# Altium footprint library CON_JST_ (1).PcbLib: 6 footprints
Each footprint in its own frame and in the unit in brackets; x right, y up, seen from the top. Pads: shape width x height; smd on the part's side, far side on the other; paste and mask are expansions set on the pad; w line width, h text height; cw(c..) or ccw(c..) is an arc to the next point about the centre after c.
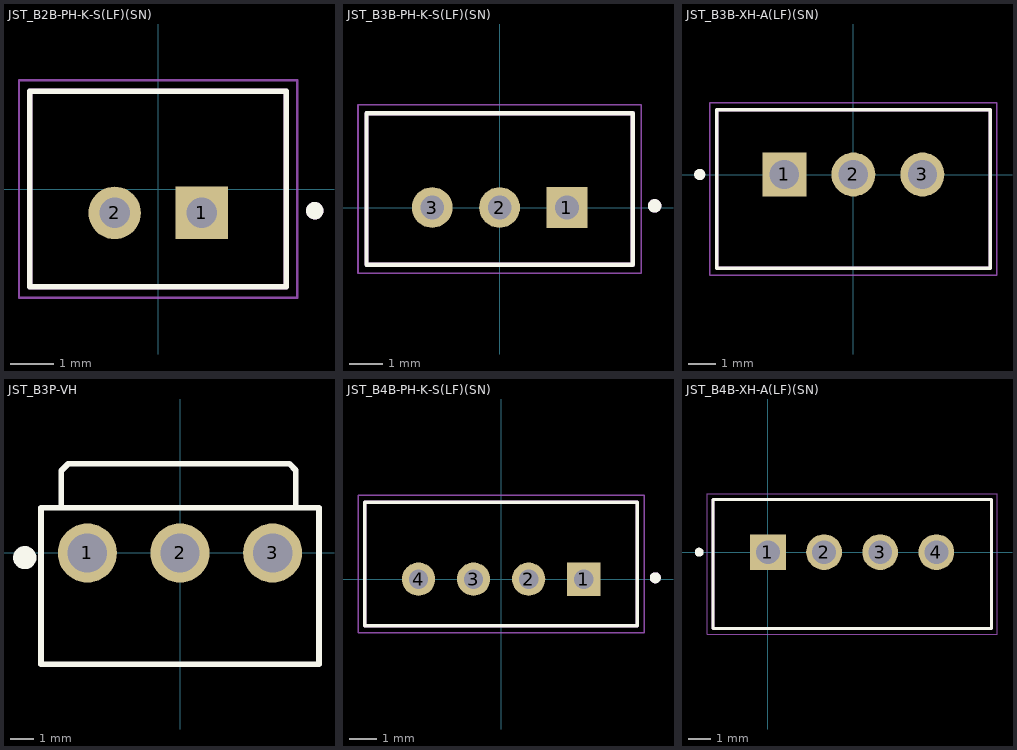
[diagram p0: the footprints below, top view; thin cyan lines are the x and y axes]

## JST_B2B-PH-K-S(LF)(SN) [mm]
pads (2):
  rect 1.208x1.208 hole 0.7: 1(1,-0.55)
  round 1.208 hole 0.7: 2(-1,-0.55)
Top Overlay:
  circle w0.2: c3.6,-0.5 r0.1
  lines w0.127: -2.95,-2.25 2.95,-2.25 2.95,2.25 -2.95,2.25 -2.95,-2.25
Mechanical 4:
  circle w0.2: c3.6,-0.5 r0.1
  circle w0.2: c3.6,-0.5 r0.1
  lines w0.127: -2.95,-2.25 -2.95,2.25 ; -2.95,-2.25 2.95,-2.25 ; -2.95,-2.25 -2.95,2.25 ; -2.95,-2.25 2.95,-2.25 ; -2.95,2.25 2.95,2.25 ; -2.95,2.25 2.95,2.25 ; 2.95,-2.25 2.95,2.25 ; 2.95,-2.25 2.95,2.25
Mechanical 16:
  lines w0.05: -3.2,-2.5 -3.2,2.5 3.2,2.5 3.2,-2.5 -3.2,-2.5
3D body: height 6, standoff 1.5, extent -2.9,2.1 2.9,2.2
3D body: height 6, standoff 1.5, extent 2.8,-2.2 2.9,2.2
3D body: height 6, standoff 1.5, extent 1,-2.2 2.9,-2.1
3D body: height 6, standoff 1.5, extent -2.9,-2.2 -1,-2.1
3D body: height 6, standoff 1.5, extent -2.9,-2.2 -2.8,2.2
3D body: height 1.5, standoff 0, extent -2.9,-2.2 2.9,2.2
3D body: height 5, standoff -3, extent -1.298,-0.849 -0.7,-0.251
3D body: height 5, standoff -3, extent 0.702,-0.849 1.3,-0.25

## JST_B3B-PH-K-S(LF)(SN) [mm]
pads (3):
  rect 1.208x1.208 hole 0.7: 1(2,0)
  round 1.208 hole 0.7: 2(0,0) 3(-2,0)
Top Overlay:
  circle w0.2: c4.6,0.05 r0.1
  lines w0.127: -3.95,-1.7 3.95,-1.7 3.95,2.8 -3.95,2.8 -3.95,-1.7
Mechanical 4:
  circle w0.2: c4.6,0.05 r0.1
  circle w0.2: c4.6,0.05 r0.1
  lines w0.127: -3.95,-1.7 -3.95,2.8 ; -3.95,-1.7 3.95,-1.7 ; -3.95,-1.7 -3.95,2.8 ; -3.95,-1.7 3.95,-1.7 ; -3.95,2.8 3.95,2.8 ; -3.95,2.8 3.95,2.8 ; 3.95,-1.7 3.95,2.8 ; 3.95,-1.7 3.95,2.8
Mechanical 16:
  lines w0.05: -4.2,-1.95 -4.2,3.05 4.2,3.05 4.2,-1.95 -4.2,-1.95
3D body: height 5, standoff -3, extent 1.702,-0.299 2.3,0.3
3D body: height 5, standoff -3, extent -0.297,-0.299 0.3,0.3
3D body: height 5, standoff -3, extent -2.298,-0.299 -1.7,0.3
3D body: height 1.5, standoff 0, extent -3.9,-1.7 3.9,2.8
3D body: height 6, standoff 1.5, extent 3.7,-1.7 3.9,2.8
3D body: height 6, standoff 1.5, extent -3.9,2.6 3.9,2.8
3D body: height 6, standoff 1.5, extent 1,-1.7 3.9,-1.5
3D body: height 6, standoff 1.5, extent -3.9,-1.7 -1,-1.5
3D body: height 6, standoff 1.5, extent -3.9,-1.7 -3.7,2.8

## JST_B3B-XH-A(LF)(SN) [mm]
pads (3):
  rect 1.59x1.59 hole 1.06: 1(-2.5,0.001)
  round 1.59 hole 1.06: 2(0,0.001) 3(2.5,0.001)
Top Overlay:
  circle w0.2: c-5.56,0.001 r0.1
  lines w0.127: -4.95,-3.399 -4.95,2.351 4.95,2.351 4.95,-3.399 -4.95,-3.399
Mechanical 4:
  lines w0.127: -4.95,-3.399 -4.95,2.351 ; -4.95,-3.399 4.95,-3.399 ; -4.95,-3.399 -4.95,2.351 ; -4.95,-3.399 4.95,-3.399 ; -4.95,2.351 4.95,2.351 ; -4.95,2.351 4.95,2.351 ; 4.95,-3.399 4.95,2.351 ; 4.95,-3.399 4.95,2.351
Mechanical 16:
  lines w0.05: -5.2,-3.649 -5.2,2.601 5.2,2.601 5.2,-3.649 -5.2,-3.649
3D body: height 6, standoff 1.5, extent -1.5,2 1.5,2.3
3D body: height 5, standoff -3, extent -2.996,-0.498 -2,0.5
3D body: height 5, standoff -3, extent -0.496,-0.499 0.5,0.499
3D body: height 5, standoff -3, extent 2.004,-0.499 3,0.499
3D body: height 1.5, standoff 0, extent -4.9,-3.4 4.9,2.301
3D body: height 6, standoff 1.5, extent -4.9,2 -2.7,2.301
3D body: height 6, standoff 1.5, extent -4.9,-3.4 4.9,-2.999
3D body: height 6, standoff 1.5, extent -4.9,-3.399 -4.5,2.301
3D body: height 6, standoff 1.5, extent 4.7,-3.4 4.9,2.3
3D body: height 6, standoff 1.5, extent 2.7,2 4.9,2.301

## JST_B3P-VH [mm]
pads (3):
  round 2.55 hole 1.7: 1(-4,0) 2(0,0) 3(4,0)
Top Overlay:
  circle w0.5: c-6.7,-0.2 r0.25
  lines w0.25: -5.125,2.025 -5.125,3.55 -4.825,3.85 4.725,3.85 5,3.575 5,1.975 5.025,1.95 ; -6,-4.8 -6,1.95 6,1.95 6,-4.8 -6,-4.8
3D body "User Library-B3P-VH.STEP": height 10.9, standoff -3.7, extent -5.895,-4.675 5.925,3.825

## JST_B4B-PH-K-S(LF)(SN) [mm]
pads (4):
  rect 1.208x1.208 hole 0.7: 1(3,0)
  round 1.208 hole 0.7: 2(1,0) 3(-1,0) 4(-3,0)
Top Overlay:
  circle w0.2: c5.6,0.05 r0.1
  lines w0.127: -4.95,-1.7 -4.95,2.8 4.95,2.8 4.95,-1.7 -4.95,-1.7
Mechanical 4:
  circle w0.2: c5.6,0.05 r0.1
  circle w0.2: c5.6,0.05 r0.1
  lines w0.127: -4.95,-1.7 4.95,-1.7 ; -4.95,-1.7 -4.95,2.8 ; -4.95,-1.7 4.95,-1.7 ; -4.95,-1.7 -4.95,2.8 ; -4.95,2.8 4.95,2.8 ; -4.95,2.8 4.95,2.8 ; 4.95,-1.7 4.95,2.8 ; 4.95,-1.7 4.95,2.8
Mechanical 16:
  lines w0.05: -5.2,-1.95 5.2,-1.95 5.2,3.05 -5.2,3.05 -5.2,-1.95
3D body: height 6, standoff 1.5, extent -4.9,-1.7 -4.7,2.8
3D body: height 6, standoff 1.5, extent -4.9,-1.7 -2,-1.5
3D body: height 6, standoff 1.5, extent 2,-1.7 4.9,-1.5
3D body: height 6, standoff 1.5, extent -4.9,2.6 4.9,2.8
3D body: height 6, standoff 1.5, extent 4.7,-1.7 4.9,2.8
3D body: height 1.5, standoff 0, extent -4.9,-1.7 4.9,2.8
3D body: height 5, standoff -3, extent -1.297,-0.299 -0.7,0.3
3D body: height 5, standoff -3, extent 0.703,-0.299 1.3,0.3
3D body: height 5, standoff -3, extent 2.703,-0.299 3.3,0.3
3D body: height 5, standoff -3, extent -3.297,-0.299 -2.7,0.3

## JST_B4B-XH-A(LF)(SN) [mm]
pads (4):
  rect 1.59x1.59 hole 1.06: 1(0,0)
  round 1.59 hole 1.06: 2(2.5,0) 3(5,0) 4(7.5,0)
Top Overlay:
  circle w0.2: c-3.06,0 r0.1
  lines w0.127: -2.45,-3.4 9.95,-3.4 9.95,2.35 -2.45,2.35 -2.45,-3.4
Mechanical 4:
  lines w0.127: -2.45,-3.4 9.95,-3.4 ; -2.45,-3.4 -2.45,2.35 ; -2.45,-3.4 9.95,-3.4 ; -2.45,-3.4 -2.45,2.35 ; -2.45,2.35 9.95,2.35 ; -2.45,2.35 9.95,2.35 ; 9.95,-3.4 9.95,2.35 ; 9.95,-3.4 9.95,2.35
Mechanical 16:
  lines w0.05: -2.7,-3.65 10.2,-3.65 10.2,2.6 -2.7,2.6 -2.7,-3.65
3D body: height 6, standoff 1.5, extent 9.6,-3.4 9.9,2.3
3D body: height 6, standoff 1.5, extent -2.4,-3.4 -2,2.3
3D body: height 6, standoff 1.5, extent -2.4,-3.4 9.9,-3
3D body: height 6, standoff 1.5, extent 7,2 9.9,2.3
3D body: height 6, standoff 1.5, extent -2.4,2 0.5,2.3
3D body: height 1.5, standoff 0, extent -2.4,-3.4 9.9,2.3
3D body: height 5, standoff -3, extent 7.004,-0.5 8,0.498
3D body: height 5, standoff -3, extent 4.504,-0.5 5.5,0.498
3D body: height 5, standoff -3, extent 2.004,-0.5 3,0.498
3D body: height 5, standoff -3, extent -0.496,-0.499 0.5,0.499
3D body: height 6, standoff 1.5, extent 2,2 5.5,2.3